# EAGLE library part 418121160806 (library Switches_rev16a)
WS-IC-2.54 mm small compact SMD Dip Switch with top tape,12 pins,6 poles
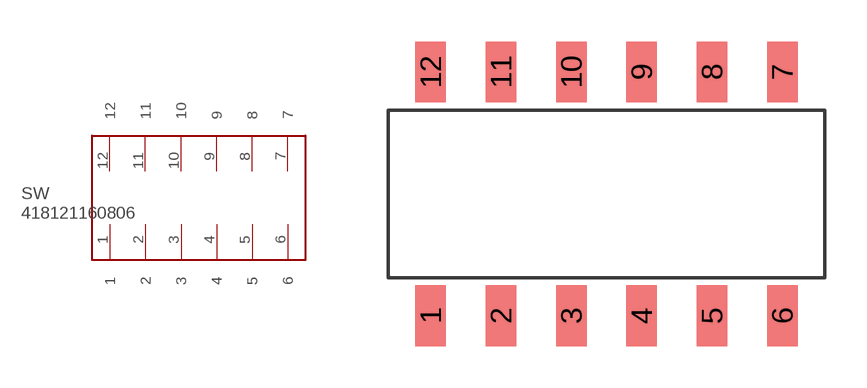
[diagram p34: symbol with the pads of 418121160806; footprint 418121160806]

Designator prefix SW

## 418121160806  [418121160806]
1  1
2  2
3  3
4  4
5  5
6  6
7  7
8  8
9  9
10  10
11  11
12  12

## Footprint 418121160806 (pad centres in mm)
WS-IC-2.54 mm small compact SMD Dip Switch with top tape,12 pins,6 poles
smd 1.1 x 2.2: 1 -6.35,-4.4; 2 -3.81,-4.4; 3 -1.27,-4.4; 4 1.27,-4.4; 5 3.81,-4.4; 6 6.35,-4.4; 7 6.35,4.4; 8 3.81,4.4; 9 1.27,4.4; 10 -1.27,4.4; 11 -3.81,4.4; 12 -6.35,4.4